# EAGLE library part PINHD-1X7 (library pinhead)
PIN HEADER
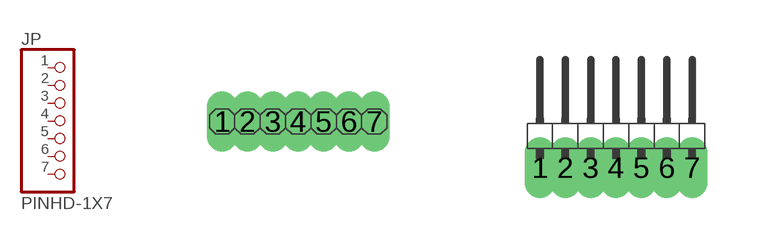
[diagram p1: symbol with the pads of 1X07; footprints 1X07, 1X07/90]

Designator prefix JP

## PINHD-1X7  [1X07]
1  1  pas
2  2  pas
3  3  pas
4  4  pas
5  5  pas
6  6  pas
7  7  pas

## PINHD-1X7/90  [1X07/90]
Pads as for 1X07

## Footprint 1X07 (pad centres in mm)
PIN HEADER
drill 0.254 long: 1 -1.905,0; 2 -1.27,0; 3 -0.635,0; 4 0,0; 5 0.635,0; 6 1.27,0; 7 1.905,0

## Footprint 1X07/90 (pad centres in mm)
PIN HEADER
drill 0.254 long: 1 -1.905,-0.953; 2 -1.27,-0.953; 3 -0.635,-0.953; 4 0,-0.953; 5 0.635,-0.953; 6 1.27,-0.953; 7 1.905,-0.953